# EAGLE library part IS42S32800J (library sjg-sdram)
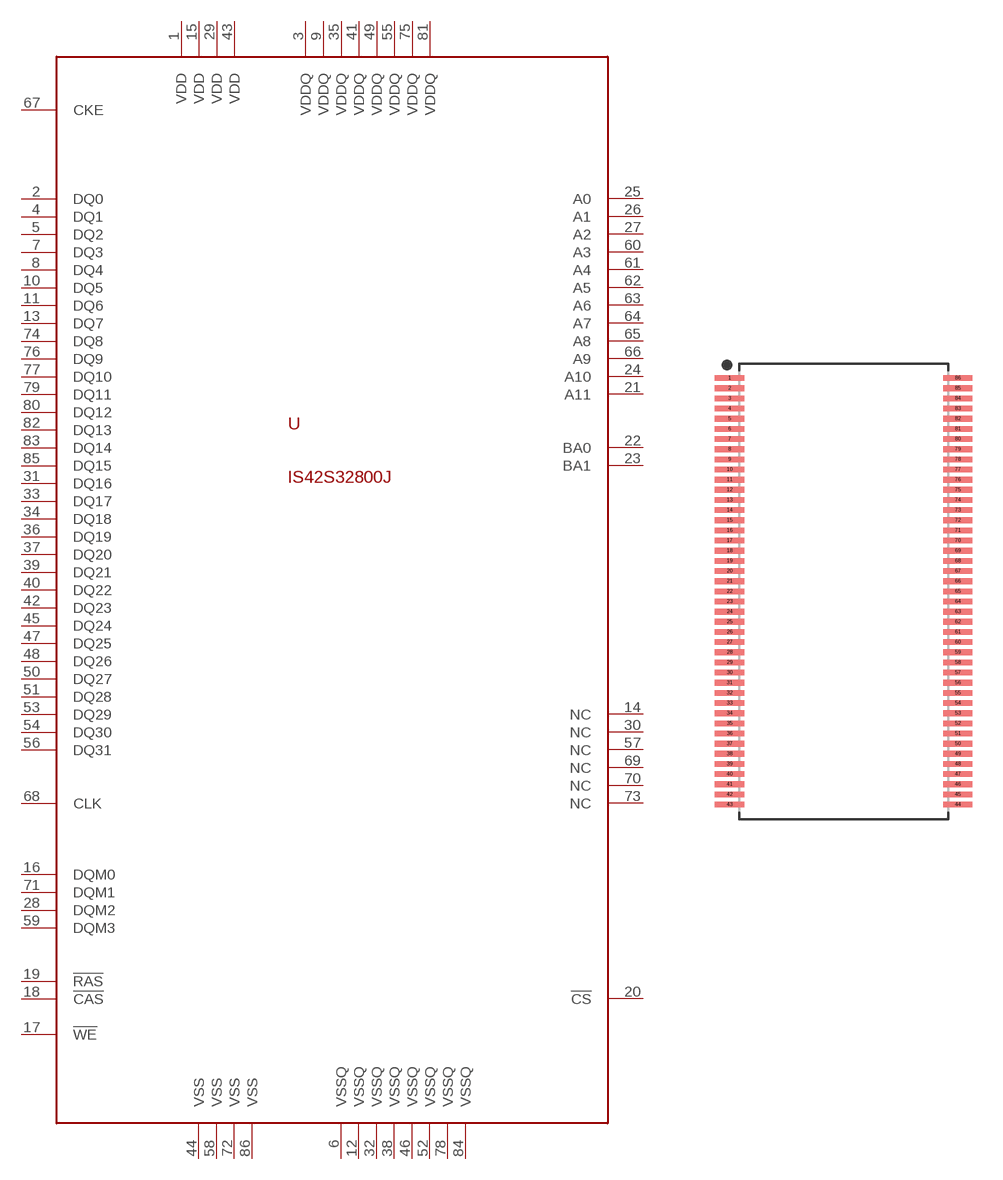
[diagram p3: symbol with the pads of SOP50P1176X120-86; footprint SOP50P1176X120-86]

Designator prefix -

## IS42S32800J  [SOP50P1176X120-86]
1  VDD
2  DQ0
3  VDDQ
4  DQ1
5  DQ2
6  VSSQ
7  DQ3
8  DQ4
9  VDDQ
10  DQ5
11  DQ6
12  VSSQ
13  DQ7
14  NC
15  VDD
16  DQM0
17  !WE!
18  !CAS!
19  !RAS!
20  !CS!
21  A11
22  BA0
23  BA1
24  A10
25  A0
26  A1
27  A2
28  DQM2
29  VDD
30  NC
31  DQ16
32  VSSQ
33  DQ17
34  DQ18
35  VDDQ
36  DQ19
37  DQ20
38  VSSQ
39  DQ21
40  DQ22
41  VDDQ
42  DQ23
43  VDD
44  VSS
45  DQ24
46  VSSQ
47  DQ25
48  DQ26
49  VDDQ
50  DQ27
51  DQ28
52  VSSQ
53  DQ29
54  DQ30
55  VDDQ
56  DQ31
57  NC
58  VSS
59  DQM3
60  A3
61  A4
62  A5
63  A6
64  A7
65  A8
66  A9
67  CKE
68  CLK
69  NC
70  NC
71  DQM1
72  VSS
73  NC
74  DQ8
75  VDDQ
76  DQ9
77  DQ10
78  VSSQ
79  DQ11
80  DQ12
81  VDDQ
82  DQ13
83  DQ14
84  VSSQ
85  DQ15
86  VSS

## Footprint SOP50P1176X120-86 (pad centres in mm)
86-SOP, 0.5 mm pitch, 11.76 mm span, 22.22 X 10.16 X 1.2 mm body 86-pin SOP package with 0.5 mm pitch, 11.76 mm span with body size 22.22 X 10.16 X 1.2 mm
smd 1.436 x 0.28: 1 -5.619,10.5; 2 -5.619,10; 3 -5.619,9.5; 4 -5.619,9; 5 -5.619,8.5; 6 -5.619,8; 7 -5.619,7.5; 8 -5.619,7; 9 -5.619,6.5; 10 -5.619,6; 11 -5.619,5.5; 12 -5.619,5; 13 -5.619,4.5; 14 -5.619,4; 15 -5.619,3.5; 16 -5.619,3; 17 -5.619,2.5; 18 -5.619,2; 19 -5.619,1.5; 20 -5.619,1; 21 -5.619,0.5; 22 -5.619,0; 23 -5.619,-0.5; 24 -5.619,-1; 25 -5.619,-1.5; 26 -5.619,-2; 27 -5.619,-2.5; 28 -5.619,-3; 29 -5.619,-3.5; 30 -5.619,-4; 31 -5.619,-4.5; 32 -5.619,-5; 33 -5.619,-5.5; 34 -5.619,-6; 35 -5.619,-6.5; 36 -5.619,-7; 37 -5.619,-7.5; 38 -5.619,-8; 39 -5.619,-8.5; 40 -5.619,-9; 41 -5.619,-9.5; 42 -5.619,-10; 43 -5.619,-10.5; 44 5.619,-10.5; 45 5.619,-10; 46 5.619,-9.5; 47 5.619,-9; 48 5.619,-8.5; 49 5.619,-8; 50 5.619,-7.5; 51 5.619,-7; 52 5.619,-6.5; 53 5.619,-6; 54 5.619,-5.5; 55 5.619,-5; 56 5.619,-4.5; 57 5.619,-4; 58 5.619,-3.5; 59 5.619,-3; 60 5.619,-2.5; 61 5.619,-2; 62 5.619,-1.5; 63 5.619,-1; 64 5.619,-0.5; 65 5.619,0; 66 5.619,0.5; 67 5.619,1; 68 5.619,1.5; 69 5.619,2; 70 5.619,2.5; 71 5.619,3; 72 5.619,3.5; 73 5.619,4; 74 5.619,4.5; 75 5.619,5; 76 5.619,5.5; 77 5.619,6; 78 5.619,6.5; 79 5.619,7; 80 5.619,7.5; 81 5.619,8; 82 5.619,8.5; 83 5.619,9; 84 5.619,9.5; 85 5.619,10; 86 5.619,10.5